# Altium schematic symbol library NCP339AFCT2G.Schlib: 1 symbol
Pins are listed as number, name and electrical type; pins without a type are passive.

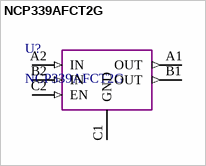
[diagram p0: symbol NCP339AFCT2G]

## NCP339AFCT2G
designator U?
pins: A1 OUT (out), A2 IN (in), B1 OUT (out), B2 IN (in), C1 GND, C2 EN (in)